# Altium integrated library TI Data Converters Analog to Digital Converter.IntLib: 2198 symbols (part 12 of 164)
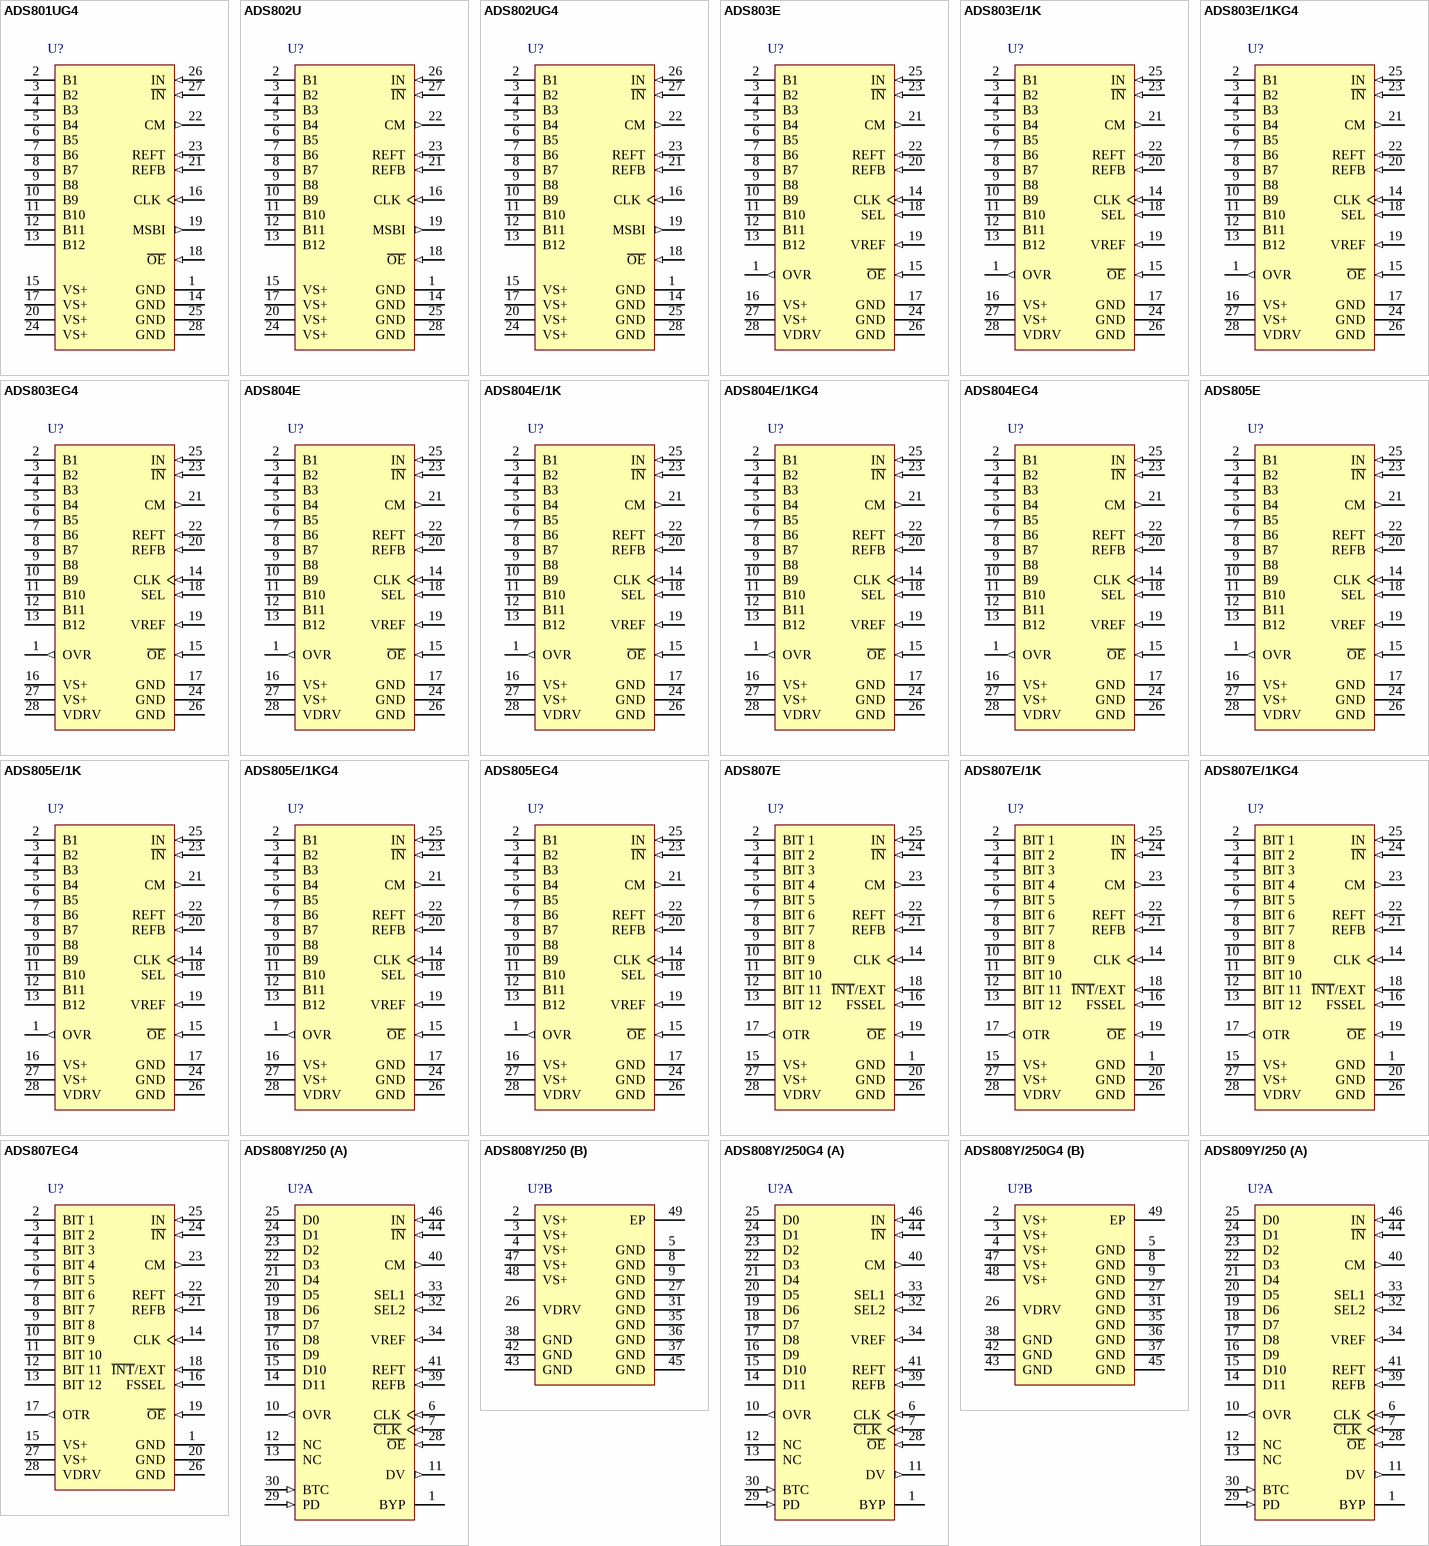
[diagram p137: symbols ADS801UG4 to ADS809Y/250]

## ADS803E/1K
designator U?
12-Bit, 5 MSPS ADC Internal / External Reference, Flexible Input between 2 and 5 Vpp, Out of Range Indicator, -40 to 85 degC, 28-pin SOP (DB28), Green (RoHS & no Sb/Br); Manufacturer: Texas Instruments; PartNumber: ADS803E/1K; # Input Channels: 1; Analog Voltage AV/DD(Max)(V): 5.3; Analog Voltage AV/DD(Min)(V): 4.7; Architecture: Pipeline; ENOB(Bits): 11; INL(Max)(+/-LSB): 2; Interface: Parallel CMOS; Resolution(Bits): 12; Sample Rate (max)(SPS): 5M; SFDR(dB): 82; SINAD(dB): 68; SNR(dB): 69; SubFamily: Precision ADC (<=10M); DatasheetVersion: SBAS074B; PackageVersion: 4040065/E, 12/2001; PackageReference: DB28; PackageDescription: 28-Pin Plastic Small Outline, Body 10.2 X 5.3 mm, Pitch 0.65 mm; Supplier 1: Digi-Key; Supplier Part Number 1: 296-32008-2-ND; Digital Supply(Max)(V): 5.3; Digital Supply(Min)(V): 4.7; Eco-Plan: Green (RoHS & no Sb/Br); Mounting Technology: Surface Mount; Code_JEDEC: MO-150; ComponentLink1Description: Manufacturer URL; ComponentLink1URL: http://www.ti.com/; ComponentLink2Description: Datasheet; ComponentLink2URL: http://www.ti.com/general/docs/lit/getliterature.tsp?genericPartNumber=ADS803&fileType=pdf; ComponentLink3Description: Package Specification; ComponentLink3URL: http://www.ti.com/lit/ml/msso002e/msso002e.pdf
footprint TI-DB28_N (SOP, 28-Leads, Body 10.2x5.3mm, Pitch 0.65mm, IPC Medium Density)
footprint TI-DB28_L (SOP, 28-Leads, Body 10.2x5.3mm, Pitch 0.65mm, IPC High Density)
footprint TI-DB28_M (SOP, 28-Leads, Body 10.2x5.3mm, Pitch 0.65mm, IPC Low Density)
pins: 1 OVR (out) "Over-Range Indicator (See Application Section)", 2 B1 (hiz) "Data Bit 1(D11) (MSB)", 3 B2 (hiz) "Data Bit 2 (D10)", 4 B3 (hiz) "Data Bit 3 (D9)", 5 B4 (hiz) "Data Bit 4 (D8)", 6 B5 (hiz) "Data Bit 5 (D7)", 7 B6 (hiz) "Data Bit 6 (D6)", 8 B7 (hiz) "Data Bit 7 (D5)", 9 B8 (hiz) "Data Bit 8 (D4)", 10 B9 (hiz) "Data Bit 9 (D3)", 11 B10 (hiz) "Data Bit 10 (D2)", 12 B11 (hiz) "Data Bit 11 (D1)", 13 B12 (hiz) "Data Bit 12 (D0) (LSB)", 14 CLK (in) "Convert Clock Input", 15 ~{OE} (in) "Output Enable. H = High Impedance State. L = Low or floating, normal operation (Internal pull-down resistor).", 16 VS+ (power) "+5V Supply", 17 GND (power) "Ground", 18 SEL (in) "Input Range Select (See Application Section)", 19 VREF (in) "Reference Voltage Select (I/O)", 20 REFB (in) "Bottom Reference", 21 CM (out) "Common-Mode Voltage", 22 REFT (in) "Top Reference", 23 ~{IN} (in) "Analog Input (-)", 24 GND (power) "Ground", 25 IN (in) "Analog Input (+)", 26 GND (power) "Ground", 27 VS+ (power) "+5V Supply", 28 VDRV (power) "Output Driver Voltage (See Application Section)"

## ADS803E/1KG4
designator U?
12-Bit, 5 MSPS ADC Internal / External Reference, Flexible Input between 2 and 5 Vpp, Out of Range Indicator, -40 to 85 degC, 28-pin SOP (DB28), Green (RoHS & no Sb/Br); Manufacturer: Texas Instruments; PartNumber: ADS803E/1KG4; # Input Channels: 1; Analog Voltage AV/DD(Max)(V): 5.3; Analog Voltage AV/DD(Min)(V): 4.7; Architecture: Pipeline; ENOB(Bits): 11; INL(Max)(+/-LSB): 2; Interface: Parallel CMOS; Resolution(Bits): 12; Sample Rate (max)(SPS): 5M; SFDR(dB): 82; SINAD(dB): 68; SNR(dB): 69; SubFamily: Precision ADC (<=10M); DatasheetVersion: SBAS074B; PackageVersion: 4040065/E, 12/2001; PackageReference: DB28; PackageDescription: 28-Pin Plastic Small Outline, Body 10.2 X 5.3 mm, Pitch 0.65 mm; Supplier 1: Digi-Key; Supplier Part Number 1: ADS1100A7IDBVTG4-ND; Digital Supply(Max)(V): 5.3; Digital Supply(Min)(V): 4.7; Eco-Plan: Green (RoHS & no Sb/Br); Mounting Technology: Surface Mount; Code_JEDEC: MO-150; ComponentLink1Description: Manufacturer URL; ComponentLink1URL: http://www.ti.com/; ComponentLink2Description: Datasheet; ComponentLink2URL: http://www.ti.com/general/docs/lit/getliterature.tsp?genericPartNumber=ADS803&fileType=pdf; ComponentLink3Description: Package Specification; ComponentLink3URL: http://www.ti.com/lit/ml/msso002e/msso002e.pdf
footprint TI-DB28_N (SOP, 28-Leads, Body 10.2x5.3mm, Pitch 0.65mm, IPC Medium Density)
footprint TI-DB28_L (SOP, 28-Leads, Body 10.2x5.3mm, Pitch 0.65mm, IPC High Density)
footprint TI-DB28_M (SOP, 28-Leads, Body 10.2x5.3mm, Pitch 0.65mm, IPC Low Density)
pins: 1 OVR (out) "Over-Range Indicator (See Application Section)", 2 B1 (hiz) "Data Bit 1(D11) (MSB)", 3 B2 (hiz) "Data Bit 2 (D10)", 4 B3 (hiz) "Data Bit 3 (D9)", 5 B4 (hiz) "Data Bit 4 (D8)", 6 B5 (hiz) "Data Bit 5 (D7)", 7 B6 (hiz) "Data Bit 6 (D6)", 8 B7 (hiz) "Data Bit 7 (D5)", 9 B8 (hiz) "Data Bit 8 (D4)", 10 B9 (hiz) "Data Bit 9 (D3)", 11 B10 (hiz) "Data Bit 10 (D2)", 12 B11 (hiz) "Data Bit 11 (D1)", 13 B12 (hiz) "Data Bit 12 (D0) (LSB)", 14 CLK (in) "Convert Clock Input", 15 ~{OE} (in) "Output Enable. H = High Impedance State. L = Low or floating, normal operation (Internal pull-down resistor).", 16 VS+ (power) "+5V Supply", 17 GND (power) "Ground", 18 SEL (in) "Input Range Select (See Application Section)", 19 VREF (in) "Reference Voltage Select (I/O)", 20 REFB (in) "Bottom Reference", 21 CM (out) "Common-Mode Voltage", 22 REFT (in) "Top Reference", 23 ~{IN} (in) "Analog Input (-)", 24 GND (power) "Ground", 25 IN (in) "Analog Input (+)", 26 GND (power) "Ground", 27 VS+ (power) "+5V Supply", 28 VDRV (power) "Output Driver Voltage (See Application Section)"

## ADS803EG4
designator U?
12-Bit, 5 MSPS ADC Internal / External Reference, Flexible Input between 2 and 5 Vpp, Out of Range Indicator, -40 to 85 degC, 28-pin SOP (DB28), Green (RoHS & no Sb/Br); Manufacturer: Texas Instruments; PartNumber: ADS803EG4; # Input Channels: 1; Analog Voltage AV/DD(Max)(V): 5.3; Analog Voltage AV/DD(Min)(V): 4.7; Architecture: Pipeline; ENOB(Bits): 11; INL(Max)(+/-LSB): 2; Interface: Parallel CMOS; Resolution(Bits): 12; Sample Rate (max)(SPS): 5M; SFDR(dB): 82; SINAD(dB): 68; SNR(dB): 69; SubFamily: Precision ADC (<=10M); DatasheetVersion: SBAS074B; PackageVersion: 4040065/E, 12/2001; PackageReference: DB28; PackageDescription: 28-Pin Plastic Small Outline, Body 10.2 X 5.3 mm, Pitch 0.65 mm; Supplier 1: Digi-Key; Supplier Part Number 1: ADS8325IBDGKR-ND; Digital Supply(Max)(V): 5.3; Digital Supply(Min)(V): 4.7; Eco-Plan: Green (RoHS & no Sb/Br); Mounting Technology: Surface Mount; Code_JEDEC: MO-150; ComponentLink1Description: Manufacturer URL; ComponentLink1URL: http://www.ti.com/; ComponentLink2Description: Datasheet; ComponentLink2URL: http://www.ti.com/general/docs/lit/getliterature.tsp?genericPartNumber=ADS803&fileType=pdf; ComponentLink3Description: Package Specification; ComponentLink3URL: http://www.ti.com/lit/ml/msso002e/msso002e.pdf
footprint TI-DB28_N (SOP, 28-Leads, Body 10.2x5.3mm, Pitch 0.65mm, IPC Medium Density)
footprint TI-DB28_L (SOP, 28-Leads, Body 10.2x5.3mm, Pitch 0.65mm, IPC High Density)
footprint TI-DB28_M (SOP, 28-Leads, Body 10.2x5.3mm, Pitch 0.65mm, IPC Low Density)
pins: 1 OVR (out) "Over-Range Indicator (See Application Section)", 2 B1 (hiz) "Data Bit 1(D11) (MSB)", 3 B2 (hiz) "Data Bit 2 (D10)", 4 B3 (hiz) "Data Bit 3 (D9)", 5 B4 (hiz) "Data Bit 4 (D8)", 6 B5 (hiz) "Data Bit 5 (D7)", 7 B6 (hiz) "Data Bit 6 (D6)", 8 B7 (hiz) "Data Bit 7 (D5)", 9 B8 (hiz) "Data Bit 8 (D4)", 10 B9 (hiz) "Data Bit 9 (D3)", 11 B10 (hiz) "Data Bit 10 (D2)", 12 B11 (hiz) "Data Bit 11 (D1)", 13 B12 (hiz) "Data Bit 12 (D0) (LSB)", 14 CLK (in) "Convert Clock Input", 15 ~{OE} (in) "Output Enable. H = High Impedance State. L = Low or floating, normal operation (Internal pull-down resistor).", 16 VS+ (power) "+5V Supply", 17 GND (power) "Ground", 18 SEL (in) "Input Range Select (See Application Section)", 19 VREF (in) "Reference Voltage Select (I/O)", 20 REFB (in) "Bottom Reference", 21 CM (out) "Common-Mode Voltage", 22 REFT (in) "Top Reference", 23 ~{IN} (in) "Analog Input (-)", 24 GND (power) "Ground", 25 IN (in) "Analog Input (+)", 26 GND (power) "Ground", 27 VS+ (power) "+5V Supply", 28 VDRV (power) "Output Driver Voltage (See Application Section)"

## ADS804E
designator U?
12-Bit, 10 MSPS ADC Internal / External Reference, Flexible Input between 2 and 5 Vpp, Out of Range Indicator, -40 to 85 degC, 28-pin SOP (DB28), Green (RoHS & no Sb/Br); Manufacturer: Texas Instruments; PartNumber: ADS804E; # Input Channels: 1; Analog Voltage AV/DD(Max)(V): 5.3; Analog Voltage AV/DD(Min)(V): 4.7; Architecture: Pipeline; INL(Max)(+/-LSB): 2; Interface: Parallel CMOS; Resolution(Bits): 12; Sample Rate (max)(SPS): 10M; SFDR(dB): 80; SINAD(dB): 68; SNR(dB): 69; SubFamily: Precision ADC (<=10M); DatasheetVersion: SBAS068B; PackageVersion: 4040065/E, 12/2001; PackageReference: DB28; PackageDescription: 28-Pin Plastic Small Outline, Body 10.2 X 5.3 mm, Pitch 0.65 mm; Supplier 1: Digi-Key; Supplier Part Number 1: ADS8325IBDGKRG4-ND; Digital Supply(Max)(V): 5.3; Digital Supply(Min)(V): 4.7; Eco-Plan: Green (RoHS & no Sb/Br); Mounting Technology: Surface Mount; Code_JEDEC: MO-150; ComponentLink1Description: Manufacturer URL; ComponentLink1URL: http://www.ti.com/; ComponentLink2Description: Datasheet; ComponentLink2URL: http://www.ti.com/general/docs/lit/getliterature.tsp?genericPartNumber=ADS804&fileType=pdf; ComponentLink3Description: Package Specification; ComponentLink3URL: http://www.ti.com/lit/ml/msso002e/msso002e.pdf
footprint TI-DB28_N (SOP, 28-Leads, Body 10.2x5.3mm, Pitch 0.65mm, IPC Medium Density)
footprint TI-DB28_L (SOP, 28-Leads, Body 10.2x5.3mm, Pitch 0.65mm, IPC High Density)
footprint TI-DB28_M (SOP, 28-Leads, Body 10.2x5.3mm, Pitch 0.65mm, IPC Low Density)
pins: 1 OVR (out) "Over-Range Indicator (See Application Section)", 2 B1 (hiz) "Data Bit 1(D11) (MSB)", 3 B2 (hiz) "Data Bit 2 (D10)", 4 B3 (hiz) "Data Bit 3 (D9)", 5 B4 (hiz) "Data Bit 4 (D8)", 6 B5 (hiz) "Data Bit 5 (D7)", 7 B6 (hiz) "Data Bit 6 (D6)", 8 B7 (hiz) "Data Bit 7 (D5)", 9 B8 (hiz) "Data Bit 8 (D4)", 10 B9 (hiz) "Data Bit 9 (D3)", 11 B10 (hiz) "Data Bit 10 (D2)", 12 B11 (hiz) "Data Bit 11 (D1)", 13 B12 (hiz) "Data Bit 12 (D0) (LSB)", 14 CLK (in) "Convert Clock Input", 15 ~{OE} (in) "Output Enable. H = High Impedance State. L = Low or floating, normal operation (Internal pull-down resistor).", 16 VS+ (power) "+5V Supply", 17 GND (power) "Ground", 18 SEL (in) "Input Range Select (See Application Section)", 19 VREF (in) "Reference Voltage Select (I/O)", 20 REFB (in) "Bottom Reference", 21 CM (out) "Common-Mode Voltage", 22 REFT (in) "Top Reference", 23 ~{IN} (in) "Analog Input (-)", 24 GND (power) "Ground", 25 IN (in) "Analog Input (+)", 26 GND (power) "Ground", 27 VS+ (power) "+5V Supply", 28 VDRV (power) "Output Driver Voltage (See Application Section)"

## ADS804E/1K
designator U?
12-Bit, 10 MSPS ADC Internal / External Reference, Flexible Input between 2 and 5 Vpp, Out of Range Indicator, -40 to 85 degC, 28-pin SOP (DB28), Green (RoHS & no Sb/Br); Manufacturer: Texas Instruments; PartNumber: ADS804E/1K; # Input Channels: 1; Analog Voltage AV/DD(Max)(V): 5.3; Analog Voltage AV/DD(Min)(V): 4.7; Architecture: Pipeline; INL(Max)(+/-LSB): 2; Interface: Parallel CMOS; Resolution(Bits): 12; Sample Rate (max)(SPS): 10M; SFDR(dB): 80; SINAD(dB): 68; SNR(dB): 69; SubFamily: Precision ADC (<=10M); DatasheetVersion: SBAS068B; PackageVersion: 4040065/E, 12/2001; PackageReference: DB28; PackageDescription: 28-Pin Plastic Small Outline, Body 10.2 X 5.3 mm, Pitch 0.65 mm; Supplier 1: Digi-Key; Supplier Part Number 1: ADS8325IBDGKTTR-ND; Digital Supply(Max)(V): 5.3; Digital Supply(Min)(V): 4.7; Eco-Plan: Green (RoHS & no Sb/Br); Mounting Technology: Surface Mount; Code_JEDEC: MO-150; ComponentLink1Description: Manufacturer URL; ComponentLink1URL: http://www.ti.com/; ComponentLink2Description: Datasheet; ComponentLink2URL: http://www.ti.com/general/docs/lit/getliterature.tsp?genericPartNumber=ADS804&fileType=pdf; ComponentLink3Description: Package Specification; ComponentLink3URL: http://www.ti.com/lit/ml/msso002e/msso002e.pdf
footprint TI-DB28_N (SOP, 28-Leads, Body 10.2x5.3mm, Pitch 0.65mm, IPC Medium Density)
footprint TI-DB28_L (SOP, 28-Leads, Body 10.2x5.3mm, Pitch 0.65mm, IPC High Density)
footprint TI-DB28_M (SOP, 28-Leads, Body 10.2x5.3mm, Pitch 0.65mm, IPC Low Density)
pins: 1 OVR (out) "Over-Range Indicator (See Application Section)", 2 B1 (hiz) "Data Bit 1(D11) (MSB)", 3 B2 (hiz) "Data Bit 2 (D10)", 4 B3 (hiz) "Data Bit 3 (D9)", 5 B4 (hiz) "Data Bit 4 (D8)", 6 B5 (hiz) "Data Bit 5 (D7)", 7 B6 (hiz) "Data Bit 6 (D6)", 8 B7 (hiz) "Data Bit 7 (D5)", 9 B8 (hiz) "Data Bit 8 (D4)", 10 B9 (hiz) "Data Bit 9 (D3)", 11 B10 (hiz) "Data Bit 10 (D2)", 12 B11 (hiz) "Data Bit 11 (D1)", 13 B12 (hiz) "Data Bit 12 (D0) (LSB)", 14 CLK (in) "Convert Clock Input", 15 ~{OE} (in) "Output Enable. H = High Impedance State. L = Low or floating, normal operation (Internal pull-down resistor).", 16 VS+ (power) "+5V Supply", 17 GND (power) "Ground", 18 SEL (in) "Input Range Select (See Application Section)", 19 VREF (in) "Reference Voltage Select (I/O)", 20 REFB (in) "Bottom Reference", 21 CM (out) "Common-Mode Voltage", 22 REFT (in) "Top Reference", 23 ~{IN} (in) "Analog Input (-)", 24 GND (power) "Ground", 25 IN (in) "Analog Input (+)", 26 GND (power) "Ground", 27 VS+ (power) "+5V Supply", 28 VDRV (power) "Output Driver Voltage (See Application Section)"

## ADS804E/1KG4
designator U?
12-Bit, 10 MSPS ADC Internal / External Reference, Flexible Input between 2 and 5 Vpp, Out of Range Indicator, -40 to 85 degC, 28-pin SOP (DB28), Green (RoHS & no Sb/Br); Manufacturer: Texas Instruments; PartNumber: ADS804E/1KG4; # Input Channels: 1; Analog Voltage AV/DD(Max)(V): 5.3; Analog Voltage AV/DD(Min)(V): 4.7; Architecture: Pipeline; INL(Max)(+/-LSB): 2; Interface: Parallel CMOS; Resolution(Bits): 12; Sample Rate (max)(SPS): 10M; SFDR(dB): 80; SINAD(dB): 68; SNR(dB): 69; SubFamily: Precision ADC (<=10M); DatasheetVersion: SBAS068B; PackageVersion: 4040065/E, 12/2001; PackageReference: DB28; PackageDescription: 28-Pin Plastic Small Outline, Body 10.2 X 5.3 mm, Pitch 0.65 mm; Supplier 1: Digi-Key; Supplier Part Number 1: ADS8325IBDGKTG4-ND; Digital Supply(Max)(V): 5.3; Digital Supply(Min)(V): 4.7; Eco-Plan: Green (RoHS & no Sb/Br); Mounting Technology: Surface Mount; Code_JEDEC: MO-150; ComponentLink1Description: Manufacturer URL; ComponentLink1URL: http://www.ti.com/; ComponentLink2Description: Datasheet; ComponentLink2URL: http://www.ti.com/general/docs/lit/getliterature.tsp?genericPartNumber=ADS804&fileType=pdf; ComponentLink3Description: Package Specification; ComponentLink3URL: http://www.ti.com/lit/ml/msso002e/msso002e.pdf
footprint TI-DB28_N (SOP, 28-Leads, Body 10.2x5.3mm, Pitch 0.65mm, IPC Medium Density)
footprint TI-DB28_L (SOP, 28-Leads, Body 10.2x5.3mm, Pitch 0.65mm, IPC High Density)
footprint TI-DB28_M (SOP, 28-Leads, Body 10.2x5.3mm, Pitch 0.65mm, IPC Low Density)
pins: 1 OVR (out) "Over-Range Indicator (See Application Section)", 2 B1 (hiz) "Data Bit 1(D11) (MSB)", 3 B2 (hiz) "Data Bit 2 (D10)", 4 B3 (hiz) "Data Bit 3 (D9)", 5 B4 (hiz) "Data Bit 4 (D8)", 6 B5 (hiz) "Data Bit 5 (D7)", 7 B6 (hiz) "Data Bit 6 (D6)", 8 B7 (hiz) "Data Bit 7 (D5)", 9 B8 (hiz) "Data Bit 8 (D4)", 10 B9 (hiz) "Data Bit 9 (D3)", 11 B10 (hiz) "Data Bit 10 (D2)", 12 B11 (hiz) "Data Bit 11 (D1)", 13 B12 (hiz) "Data Bit 12 (D0) (LSB)", 14 CLK (in) "Convert Clock Input", 15 ~{OE} (in) "Output Enable. H = High Impedance State. L = Low or floating, normal operation (Internal pull-down resistor).", 16 VS+ (power) "+5V Supply", 17 GND (power) "Ground", 18 SEL (in) "Input Range Select (See Application Section)", 19 VREF (in) "Reference Voltage Select (I/O)", 20 REFB (in) "Bottom Reference", 21 CM (out) "Common-Mode Voltage", 22 REFT (in) "Top Reference", 23 ~{IN} (in) "Analog Input (-)", 24 GND (power) "Ground", 25 IN (in) "Analog Input (+)", 26 GND (power) "Ground", 27 VS+ (power) "+5V Supply", 28 VDRV (power) "Output Driver Voltage (See Application Section)"

## ADS804EG4
designator U?
12-Bit, 10 MSPS ADC Internal / External Reference, Flexible Input between 2 and 5 Vpp, Out of Range Indicator, -40 to 85 degC, 28-pin SOP (DB28), Green (RoHS & no Sb/Br); Manufacturer: Texas Instruments; PartNumber: ADS804EG4; # Input Channels: 1; Analog Voltage AV/DD(Max)(V): 5.3; Analog Voltage AV/DD(Min)(V): 4.7; Architecture: Pipeline; INL(Max)(+/-LSB): 2; Interface: Parallel CMOS; Resolution(Bits): 12; Sample Rate (max)(SPS): 10M; SFDR(dB): 80; SINAD(dB): 68; SNR(dB): 69; SubFamily: Precision ADC (<=10M); DatasheetVersion: SBAS068B; PackageVersion: 4040065/E, 12/2001; PackageReference: DB28; PackageDescription: 28-Pin Plastic Small Outline, Body 10.2 X 5.3 mm, Pitch 0.65 mm; Supplier 1: Digi-Key; Supplier Part Number 1: ADS8325IDGKR-ND; Digital Supply(Max)(V): 5.3; Digital Supply(Min)(V): 4.7; Eco-Plan: Green (RoHS & no Sb/Br); Mounting Technology: Surface Mount; Code_JEDEC: MO-150; ComponentLink1Description: Manufacturer URL; ComponentLink1URL: http://www.ti.com/; ComponentLink2Description: Datasheet; ComponentLink2URL: http://www.ti.com/general/docs/lit/getliterature.tsp?genericPartNumber=ADS804&fileType=pdf; ComponentLink3Description: Package Specification; ComponentLink3URL: http://www.ti.com/lit/ml/msso002e/msso002e.pdf
footprint TI-DB28_N (SOP, 28-Leads, Body 10.2x5.3mm, Pitch 0.65mm, IPC Medium Density)
footprint TI-DB28_L (SOP, 28-Leads, Body 10.2x5.3mm, Pitch 0.65mm, IPC High Density)
footprint TI-DB28_M (SOP, 28-Leads, Body 10.2x5.3mm, Pitch 0.65mm, IPC Low Density)
pins: 1 OVR (out) "Over-Range Indicator (See Application Section)", 2 B1 (hiz) "Data Bit 1(D11) (MSB)", 3 B2 (hiz) "Data Bit 2 (D10)", 4 B3 (hiz) "Data Bit 3 (D9)", 5 B4 (hiz) "Data Bit 4 (D8)", 6 B5 (hiz) "Data Bit 5 (D7)", 7 B6 (hiz) "Data Bit 6 (D6)", 8 B7 (hiz) "Data Bit 7 (D5)", 9 B8 (hiz) "Data Bit 8 (D4)", 10 B9 (hiz) "Data Bit 9 (D3)", 11 B10 (hiz) "Data Bit 10 (D2)", 12 B11 (hiz) "Data Bit 11 (D1)", 13 B12 (hiz) "Data Bit 12 (D0) (LSB)", 14 CLK (in) "Convert Clock Input", 15 ~{OE} (in) "Output Enable. H = High Impedance State. L = Low or floating, normal operation (Internal pull-down resistor).", 16 VS+ (power) "+5V Supply", 17 GND (power) "Ground", 18 SEL (in) "Input Range Select (See Application Section)", 19 VREF (in) "Reference Voltage Select (I/O)", 20 REFB (in) "Bottom Reference", 21 CM (out) "Common-Mode Voltage", 22 REFT (in) "Top Reference", 23 ~{IN} (in) "Analog Input (-)", 24 GND (power) "Ground", 25 IN (in) "Analog Input (+)", 26 GND (power) "Ground", 27 VS+ (power) "+5V Supply", 28 VDRV (power) "Output Driver Voltage (See Application Section)"

## ADS805E
designator U?
12-Bit, 20 MSPS ADC Internal / External Reference, Flexible Input between 2 and 5 Vpp, Out of Range Indicator, -40 to 85 degC, 28-pin SOP (DB28), Green (RoHS & no Sb/Br); Manufacturer: Texas Instruments; PartNumber: ADS805E; # Input Channels: 1; Analog Voltage AV/DD(Max)(V): 5.25; Analog Voltage AV/DD(Min)(V): 4.75; Architecture: Pipeline; ENOB(Bits): 10.7; INL(Max)(+/-LSB): 2; Interface: Parallel CMOS; Resolution(Bits): 12; Sample Rate (max)(SPS): 20M; SFDR(dB): 74; SINAD(dB): 66; SNR(dB): 68; SubFamily: High Speed ADC (>10M); DatasheetVersion: SBAS073B; PackageVersion: 4040065/E, 12/2001; PackageReference: DB28; PackageDescription: 28-Pin Plastic Small Outline, Body 10.2 X 5.3 mm, Pitch 0.65 mm; Supplier 1: Digi-Key; Supplier Part Number 1: ADS8325IDGKRG4-ND; Digital Supply(Max)(V): 5.25; Digital Supply(Min)(V): 4.75; Eco-Plan: Green (RoHS & no Sb/Br); Mounting Technology: Surface Mount; Code_JEDEC: MO-150; ComponentLink1Description: Manufacturer URL; ComponentLink1URL: http://www.ti.com/; ComponentLink2Description: Datasheet; ComponentLink2URL: http://www.ti.com/general/docs/lit/getliterature.tsp?genericPartNumber=ADS805&fileType=pdf; ComponentLink3Description: Package Specification; ComponentLink3URL: http://www.ti.com/lit/ml/msso002e/msso002e.pdf
footprint TI-DB28_N (SOP, 28-Leads, Body 10.2x5.3mm, Pitch 0.65mm, IPC Medium Density)
footprint TI-DB28_L (SOP, 28-Leads, Body 10.2x5.3mm, Pitch 0.65mm, IPC High Density)
footprint TI-DB28_M (SOP, 28-Leads, Body 10.2x5.3mm, Pitch 0.65mm, IPC Low Density)
pins: 1 OVR (out) "Over-Range Indicator (See Application Section)", 2 B1 (hiz) "Data Bit 1(D11) (MSB)", 3 B2 (hiz) "Data Bit 2 (D10)", 4 B3 (hiz) "Data Bit 3 (D9)", 5 B4 (hiz) "Data Bit 4 (D8)", 6 B5 (hiz) "Data Bit 5 (D7)", 7 B6 (hiz) "Data Bit 6 (D6)", 8 B7 (hiz) "Data Bit 7 (D5)", 9 B8 (hiz) "Data Bit 8 (D4)", 10 B9 (hiz) "Data Bit 9 (D3)", 11 B10 (hiz) "Data Bit 10 (D2)", 12 B11 (hiz) "Data Bit 11 (D1)", 13 B12 (hiz) "Data Bit 12 (D0) (LSB)", 14 CLK (in) "Convert Clock Input", 15 ~{OE} (in) "Output Enable. H = High Impedance State. L = Low or floating, normal operation (Internal pull-down resistor).", 16 VS+ (power) "+5V Supply", 17 GND (power) "Ground", 18 SEL (in) "Input Range Select (See Application Section)", 19 VREF (in) "Reference Voltage Select (I/O)", 20 REFB (in) "Bottom Reference", 21 CM (out) "Common-Mode Voltage", 22 REFT (in) "Top Reference", 23 ~{IN} (in) "Analog Input (-)", 24 GND (power) "Ground", 25 IN (in) "Analog Input (+)", 26 GND (power) "Ground", 27 VS+ (power) "+5V Supply", 28 VDRV (power) "Output Driver Voltage (See Application Section)"

## ADS805E/1K
designator U?
12-Bit, 20 MSPS ADC Internal / External Reference, Flexible Input between 2 and 5 Vpp, Out of Range Indicator, -40 to 85 degC, 28-pin SOP (DB28), Green (RoHS & no Sb/Br); Manufacturer: Texas Instruments; PartNumber: ADS805E/1K; # Input Channels: 1; Analog Voltage AV/DD(Max)(V): 5.25; Analog Voltage AV/DD(Min)(V): 4.75; Architecture: Pipeline; ENOB(Bits): 10.7; INL(Max)(+/-LSB): 2; Interface: Parallel CMOS; Resolution(Bits): 12; Sample Rate (max)(SPS): 20M; SFDR(dB): 74; SINAD(dB): 66; SNR(dB): 68; SubFamily: High Speed ADC (>10M); DatasheetVersion: SBAS073B; PackageVersion: 4040065/E, 12/2001; PackageReference: DB28; PackageDescription: 28-Pin Plastic Small Outline, Body 10.2 X 5.3 mm, Pitch 0.65 mm; Supplier 1: Digi-Key; Supplier Part Number 1: 296-19859-2-ND; Digital Supply(Max)(V): 5.25; Digital Supply(Min)(V): 4.75; Eco-Plan: Green (RoHS & no Sb/Br); Mounting Technology: Surface Mount; Code_JEDEC: MO-150; ComponentLink1Description: Manufacturer URL; ComponentLink1URL: http://www.ti.com/; ComponentLink2Description: Datasheet; ComponentLink2URL: http://www.ti.com/general/docs/lit/getliterature.tsp?genericPartNumber=ADS805&fileType=pdf; ComponentLink3Description: Package Specification; ComponentLink3URL: http://www.ti.com/lit/ml/msso002e/msso002e.pdf
footprint TI-DB28_N (SOP, 28-Leads, Body 10.2x5.3mm, Pitch 0.65mm, IPC Medium Density)
footprint TI-DB28_L (SOP, 28-Leads, Body 10.2x5.3mm, Pitch 0.65mm, IPC High Density)
footprint TI-DB28_M (SOP, 28-Leads, Body 10.2x5.3mm, Pitch 0.65mm, IPC Low Density)
pins: 1 OVR (out) "Over-Range Indicator (See Application Section)", 2 B1 (hiz) "Data Bit 1(D11) (MSB)", 3 B2 (hiz) "Data Bit 2 (D10)", 4 B3 (hiz) "Data Bit 3 (D9)", 5 B4 (hiz) "Data Bit 4 (D8)", 6 B5 (hiz) "Data Bit 5 (D7)", 7 B6 (hiz) "Data Bit 6 (D6)", 8 B7 (hiz) "Data Bit 7 (D5)", 9 B8 (hiz) "Data Bit 8 (D4)", 10 B9 (hiz) "Data Bit 9 (D3)", 11 B10 (hiz) "Data Bit 10 (D2)", 12 B11 (hiz) "Data Bit 11 (D1)", 13 B12 (hiz) "Data Bit 12 (D0) (LSB)", 14 CLK (in) "Convert Clock Input", 15 ~{OE} (in) "Output Enable. H = High Impedance State. L = Low or floating, normal operation (Internal pull-down resistor).", 16 VS+ (power) "+5V Supply", 17 GND (power) "Ground", 18 SEL (in) "Input Range Select (See Application Section)", 19 VREF (in) "Reference Voltage Select (I/O)", 20 REFB (in) "Bottom Reference", 21 CM (out) "Common-Mode Voltage", 22 REFT (in) "Top Reference", 23 ~{IN} (in) "Analog Input (-)", 24 GND (power) "Ground", 25 IN (in) "Analog Input (+)", 26 GND (power) "Ground", 27 VS+ (power) "+5V Supply", 28 VDRV (power) "Output Driver Voltage (See Application Section)"

## ADS805E/1KG4
designator U?
12-Bit, 20 MSPS ADC Internal / External Reference, Flexible Input between 2 and 5 Vpp, Out of Range Indicator, -40 to 85 degC, 28-pin SOP (DB28), Green (RoHS & no Sb/Br); Manufacturer: Texas Instruments; PartNumber: ADS805E/1KG4; # Input Channels: 1; Analog Voltage AV/DD(Max)(V): 5.25; Analog Voltage AV/DD(Min)(V): 4.75; Architecture: Pipeline; ENOB(Bits): 10.7; INL(Max)(+/-LSB): 2; Interface: Parallel CMOS; Resolution(Bits): 12; Sample Rate (max)(SPS): 20M; SFDR(dB): 74; SINAD(dB): 66; SNR(dB): 68; SubFamily: High Speed ADC (>10M); DatasheetVersion: SBAS073B; PackageVersion: 4040065/E, 12/2001; PackageReference: DB28; PackageDescription: 28-Pin Plastic Small Outline, Body 10.2 X 5.3 mm, Pitch 0.65 mm; Supplier 1: Digi-Key; Supplier Part Number 1: ADS8325IDGKTG4-ND; Digital Supply(Max)(V): 5.25; Digital Supply(Min)(V): 4.75; Eco-Plan: Green (RoHS & no Sb/Br); Mounting Technology: Surface Mount; Code_JEDEC: MO-150; ComponentLink1Description: Manufacturer URL; ComponentLink1URL: http://www.ti.com/; ComponentLink2Description: Datasheet; ComponentLink2URL: http://www.ti.com/general/docs/lit/getliterature.tsp?genericPartNumber=ADS805&fileType=pdf; ComponentLink3Description: Package Specification; ComponentLink3URL: http://www.ti.com/lit/ml/msso002e/msso002e.pdf
footprint TI-DB28_N (SOP, 28-Leads, Body 10.2x5.3mm, Pitch 0.65mm, IPC Medium Density)
footprint TI-DB28_L (SOP, 28-Leads, Body 10.2x5.3mm, Pitch 0.65mm, IPC High Density)
footprint TI-DB28_M (SOP, 28-Leads, Body 10.2x5.3mm, Pitch 0.65mm, IPC Low Density)
pins: 1 OVR (out) "Over-Range Indicator (See Application Section)", 2 B1 (hiz) "Data Bit 1(D11) (MSB)", 3 B2 (hiz) "Data Bit 2 (D10)", 4 B3 (hiz) "Data Bit 3 (D9)", 5 B4 (hiz) "Data Bit 4 (D8)", 6 B5 (hiz) "Data Bit 5 (D7)", 7 B6 (hiz) "Data Bit 6 (D6)", 8 B7 (hiz) "Data Bit 7 (D5)", 9 B8 (hiz) "Data Bit 8 (D4)", 10 B9 (hiz) "Data Bit 9 (D3)", 11 B10 (hiz) "Data Bit 10 (D2)", 12 B11 (hiz) "Data Bit 11 (D1)", 13 B12 (hiz) "Data Bit 12 (D0) (LSB)", 14 CLK (in) "Convert Clock Input", 15 ~{OE} (in) "Output Enable. H = High Impedance State. L = Low or floating, normal operation (Internal pull-down resistor).", 16 VS+ (power) "+5V Supply", 17 GND (power) "Ground", 18 SEL (in) "Input Range Select (See Application Section)", 19 VREF (in) "Reference Voltage Select (I/O)", 20 REFB (in) "Bottom Reference", 21 CM (out) "Common-Mode Voltage", 22 REFT (in) "Top Reference", 23 ~{IN} (in) "Analog Input (-)", 24 GND (power) "Ground", 25 IN (in) "Analog Input (+)", 26 GND (power) "Ground", 27 VS+ (power) "+5V Supply", 28 VDRV (power) "Output Driver Voltage (See Application Section)"

## ADS805EG4
designator U?
12-Bit, 20 MSPS ADC Internal / External Reference, Flexible Input between 2 and 5 Vpp, Out of Range Indicator, -40 to 85 degC, 28-pin SOP (DB28), Green (RoHS & no Sb/Br); Manufacturer: Texas Instruments; PartNumber: ADS805EG4; # Input Channels: 1; Analog Voltage AV/DD(Max)(V): 5.25; Analog Voltage AV/DD(Min)(V): 4.75; Architecture: Pipeline; ENOB(Bits): 10.7; INL(Max)(+/-LSB): 2; Interface: Parallel CMOS; Resolution(Bits): 12; Sample Rate (max)(SPS): 20M; SFDR(dB): 74; SINAD(dB): 66; SNR(dB): 68; SubFamily: High Speed ADC (>10M); DatasheetVersion: SBAS073B; PackageVersion: 4040065/E, 12/2001; PackageReference: DB28; PackageDescription: 28-Pin Plastic Small Outline, Body 10.2 X 5.3 mm, Pitch 0.65 mm; Supplier 1: Digi-Key; Supplier Part Number 1: 296-12746-5-ND; Digital Supply(Max)(V): 5.25; Digital Supply(Min)(V): 4.75; Eco-Plan: Green (RoHS & no Sb/Br); Mounting Technology: Surface Mount; Code_JEDEC: MO-150; ComponentLink1Description: Manufacturer URL; ComponentLink1URL: http://www.ti.com/; ComponentLink2Description: Datasheet; ComponentLink2URL: http://www.ti.com/general/docs/lit/getliterature.tsp?genericPartNumber=ADS805&fileType=pdf; ComponentLink3Description: Package Specification; ComponentLink3URL: http://www.ti.com/lit/ml/msso002e/msso002e.pdf
footprint TI-DB28_N (SOP, 28-Leads, Body 10.2x5.3mm, Pitch 0.65mm, IPC Medium Density)
footprint TI-DB28_L (SOP, 28-Leads, Body 10.2x5.3mm, Pitch 0.65mm, IPC High Density)
footprint TI-DB28_M (SOP, 28-Leads, Body 10.2x5.3mm, Pitch 0.65mm, IPC Low Density)
pins: 1 OVR (out) "Over-Range Indicator (See Application Section)", 2 B1 (hiz) "Data Bit 1(D11) (MSB)", 3 B2 (hiz) "Data Bit 2 (D10)", 4 B3 (hiz) "Data Bit 3 (D9)", 5 B4 (hiz) "Data Bit 4 (D8)", 6 B5 (hiz) "Data Bit 5 (D7)", 7 B6 (hiz) "Data Bit 6 (D6)", 8 B7 (hiz) "Data Bit 7 (D5)", 9 B8 (hiz) "Data Bit 8 (D4)", 10 B9 (hiz) "Data Bit 9 (D3)", 11 B10 (hiz) "Data Bit 10 (D2)", 12 B11 (hiz) "Data Bit 11 (D1)", 13 B12 (hiz) "Data Bit 12 (D0) (LSB)", 14 CLK (in) "Convert Clock Input", 15 ~{OE} (in) "Output Enable. H = High Impedance State. L = Low or floating, normal operation (Internal pull-down resistor).", 16 VS+ (power) "+5V Supply", 17 GND (power) "Ground", 18 SEL (in) "Input Range Select (See Application Section)", 19 VREF (in) "Reference Voltage Select (I/O)", 20 REFB (in) "Bottom Reference", 21 CM (out) "Common-Mode Voltage", 22 REFT (in) "Top Reference", 23 ~{IN} (in) "Analog Input (-)", 24 GND (power) "Ground", 25 IN (in) "Analog Input (+)", 26 GND (power) "Ground", 27 VS+ (power) "+5V Supply", 28 VDRV (power) "Output Driver Voltage (See Application Section)"

## ADS807E
designator U?
12-Bit, 53 MSPS ADC Single-Ended / Differential Input with Range of 2 to 3 Vpp, Internal / External Reference, Out of Range Indicator, -40 to 85 degC, 28-pin SOP (DB28), Green (RoHS & no Sb/Br); Manufacturer: Texas Instruments; PartNumber: ADS807E; # Input Channels: 1; Analog Voltage AV/DD(Max)(V): 5.25; Analog Voltage AV/DD(Min)(V): 4.75; Architecture: Pipeline; Digital Supply(Max)(V): 5; Digital Supply(Min)(V): 3; ENOB(Bits): 0.5; INL(Max)(+/-LSB): 4; Interface: Parallel CMOS; Resolution(Bits): 12; Sample Rate (max)(SPS): 53M; SFDR(dB): 82; SINAD(dB): 69; SubFamily: High Speed ADC (>10MSPS); DatasheetVersion: SBAS072A; PackageVersion: 4040065/E, 12/2001; PackageReference: DB28; PackageDescription: 28-Pin Plastic Small Outline, Body 10.2 X 5.3 mm, Pitch 0.65 mm; Supplier 1: Digi-Key; Supplier Part Number 1: TLC4545IDGKG4-ND; Eco-Plan: Green (RoHS & no Sb/Br); SNR(dB): 69; Mounting Technology: Surface Mount; Code_JEDEC: MO-150; ComponentLink1Description: Manufacturer URL; ComponentLink1URL: http://www.ti.com/; ComponentLink2Description: Datasheet; ComponentLink2URL: http://www.ti.com/general/docs/lit/getliterature.tsp?genericPartNumber=ADS807&fileType=pdf; ComponentLink3Description: Package Specification; ComponentLink3URL: http://www.ti.com/lit/ml/msso002e/msso002e.pdf
footprint TI-DB28_N (SOP, 28-Leads, Body 10.2x5.3mm, Pitch 0.65mm, IPC Medium Density)
footprint TI-DB28_L (SOP, 28-Leads, Body 10.2x5.3mm, Pitch 0.65mm, IPC High Density)
footprint TI-DB28_M (SOP, 28-Leads, Body 10.2x5.3mm, Pitch 0.65mm, IPC Low Density)
pins: 1 GND (power) "Ground", 2 BIT 1 (hiz) "Data BIT 1 (MSB)", 3 BIT 2 (hiz) "Data BIT 2", 4 BIT 3 (hiz) "Data BIT 3", 5 BIT 4 (hiz) "Data BIT 4", 6 BIT 5 (hiz) "Data BIT 5", 7 BIT 6 (hiz) "Data BIT 6", 8 BIT 7 (hiz) "Data BIT 7", 9 BIT 8 (hiz) "Data BIT 8", 10 BIT 9 (hiz) "Data BIT 9", 11 BIT 10 (hiz) "Data BIT 10", 12 BIT 11 (hiz) "Data BIT 11", 13 BIT 12 (hiz) "Data BIT 12 (LSB)", 14 CLK (in) "Convert Clock", 15 VS+ (power) "+5V Supply", 16 FSSEL (in) "HI = 3V, LO = 2V", 17 OTR (out) "Out-of-Range Indicator", 18 ~{INT}/EXT (in) "Reference Select: HIGH or Floating = External LOW = Internal 50kohm pull-up.", 19 ~{OE} (in) "Output Enable", 20 GND (power) "Ground", 21 REFB (in) "Bottom Reference/Bypass", 22 REFT (in) "Top Reference/Bypass", 23 CM (out) "Common-Mode Voltage Output", 24 ~{IN} (in) "Complementary Analog Input", 25 IN (in) "Analog Input", 26 GND (power) "Ground", 27 VS+ (power) "+5V Supply", 28 VDRV (power) "Logic Driver Supply Voltage"

## ADS807E/1K
designator U?
12-Bit, 53 MSPS ADC Single-Ended / Differential Input with Range of 2 to 3 Vpp, Internal / External Reference, Out of Range Indicator, -40 to 85 degC, 28-pin SOP (DB28), Green (RoHS & no Sb/Br); Manufacturer: Texas Instruments; PartNumber: ADS807E/1K; # Input Channels: 1; Analog Voltage AV/DD(Max)(V): 5.25; Analog Voltage AV/DD(Min)(V): 4.75; Architecture: Pipeline; Digital Supply(Max)(V): 5; Digital Supply(Min)(V): 3; ENOB(Bits): 0.5; INL(Max)(+/-LSB): 4; Interface: Parallel CMOS; Resolution(Bits): 12; Sample Rate (max)(SPS): 53M; SFDR(dB): 82; SINAD(dB): 69; SubFamily: High Speed ADC (>10MSPS); DatasheetVersion: SBAS072A; PackageVersion: 4040065/E, 12/2001; PackageReference: DB28; PackageDescription: 28-Pin Plastic Small Outline, Body 10.2 X 5.3 mm, Pitch 0.65 mm; Supplier 1: Digi-Key; Supplier Part Number 1: 296-13825-5-ND; Eco-Plan: Green (RoHS & no Sb/Br); SNR(dB): 69; Mounting Technology: Surface Mount; Code_JEDEC: MO-150; ComponentLink1Description: Manufacturer URL; ComponentLink1URL: http://www.ti.com/; ComponentLink2Description: Datasheet; ComponentLink2URL: http://www.ti.com/general/docs/lit/getliterature.tsp?genericPartNumber=ADS807&fileType=pdf; ComponentLink3Description: Package Specification; ComponentLink3URL: http://www.ti.com/lit/ml/msso002e/msso002e.pdf
footprint TI-DB28_N (SOP, 28-Leads, Body 10.2x5.3mm, Pitch 0.65mm, IPC Medium Density)
footprint TI-DB28_L (SOP, 28-Leads, Body 10.2x5.3mm, Pitch 0.65mm, IPC High Density)
footprint TI-DB28_M (SOP, 28-Leads, Body 10.2x5.3mm, Pitch 0.65mm, IPC Low Density)
pins: 1 GND (power) "Ground", 2 BIT 1 (hiz) "Data BIT 1 (MSB)", 3 BIT 2 (hiz) "Data BIT 2", 4 BIT 3 (hiz) "Data BIT 3", 5 BIT 4 (hiz) "Data BIT 4", 6 BIT 5 (hiz) "Data BIT 5", 7 BIT 6 (hiz) "Data BIT 6", 8 BIT 7 (hiz) "Data BIT 7", 9 BIT 8 (hiz) "Data BIT 8", 10 BIT 9 (hiz) "Data BIT 9", 11 BIT 10 (hiz) "Data BIT 10", 12 BIT 11 (hiz) "Data BIT 11", 13 BIT 12 (hiz) "Data BIT 12 (LSB)", 14 CLK (in) "Convert Clock", 15 VS+ (power) "+5V Supply", 16 FSSEL (in) "HI = 3V, LO = 2V", 17 OTR (out) "Out-of-Range Indicator", 18 ~{INT}/EXT (in) "Reference Select: HIGH or Floating = External LOW = Internal 50kohm pull-up.", 19 ~{OE} (in) "Output Enable", 20 GND (power) "Ground", 21 REFB (in) "Bottom Reference/Bypass", 22 REFT (in) "Top Reference/Bypass", 23 CM (out) "Common-Mode Voltage Output", 24 ~{IN} (in) "Complementary Analog Input", 25 IN (in) "Analog Input", 26 GND (power) "Ground", 27 VS+ (power) "+5V Supply", 28 VDRV (power) "Logic Driver Supply Voltage"

## ADS807E/1KG4
designator U?
12-Bit, 53 MSPS ADC Single-Ended / Differential Input with Range of 2 to 3 Vpp, Internal / External Reference, Out of Range Indicator, -40 to 85 degC, 28-pin SOP (DB28), Green (RoHS & no Sb/Br); Manufacturer: Texas Instruments; PartNumber: ADS807E/1KG4; # Input Channels: 1; Analog Voltage AV/DD(Max)(V): 5.25; Analog Voltage AV/DD(Min)(V): 4.75; Architecture: Pipeline; Digital Supply(Max)(V): 5; Digital Supply(Min)(V): 3; ENOB(Bits): 0.5; INL(Max)(+/-LSB): 4; Interface: Parallel CMOS; Resolution(Bits): 12; Sample Rate (max)(SPS): 53M; SFDR(dB): 82; SINAD(dB): 69; SubFamily: High Speed ADC (>10MSPS); DatasheetVersion: SBAS072A; PackageVersion: 4040065/E, 12/2001; PackageReference: DB28; PackageDescription: 28-Pin Plastic Small Outline, Body 10.2 X 5.3 mm, Pitch 0.65 mm; Supplier 1: Digi-Key; Supplier Part Number 1: TLC4541IDGKG4-ND; Eco-Plan: Green (RoHS & no Sb/Br); SNR(dB): 69; Mounting Technology: Surface Mount; Code_JEDEC: MO-150; ComponentLink1Description: Manufacturer URL; ComponentLink1URL: http://www.ti.com/; ComponentLink2Description: Datasheet; ComponentLink2URL: http://www.ti.com/general/docs/lit/getliterature.tsp?genericPartNumber=ADS807&fileType=pdf; ComponentLink3Description: Package Specification; ComponentLink3URL: http://www.ti.com/lit/ml/msso002e/msso002e.pdf
footprint TI-DB28_N (SOP, 28-Leads, Body 10.2x5.3mm, Pitch 0.65mm, IPC Medium Density)
footprint TI-DB28_L (SOP, 28-Leads, Body 10.2x5.3mm, Pitch 0.65mm, IPC High Density)
footprint TI-DB28_M (SOP, 28-Leads, Body 10.2x5.3mm, Pitch 0.65mm, IPC Low Density)
pins: 1 GND (power) "Ground", 2 BIT 1 (hiz) "Data BIT 1 (MSB)", 3 BIT 2 (hiz) "Data BIT 2", 4 BIT 3 (hiz) "Data BIT 3", 5 BIT 4 (hiz) "Data BIT 4", 6 BIT 5 (hiz) "Data BIT 5", 7 BIT 6 (hiz) "Data BIT 6", 8 BIT 7 (hiz) "Data BIT 7", 9 BIT 8 (hiz) "Data BIT 8", 10 BIT 9 (hiz) "Data BIT 9", 11 BIT 10 (hiz) "Data BIT 10", 12 BIT 11 (hiz) "Data BIT 11", 13 BIT 12 (hiz) "Data BIT 12 (LSB)", 14 CLK (in) "Convert Clock", 15 VS+ (power) "+5V Supply", 16 FSSEL (in) "HI = 3V, LO = 2V", 17 OTR (out) "Out-of-Range Indicator", 18 ~{INT}/EXT (in) "Reference Select: HIGH or Floating = External LOW = Internal 50kohm pull-up.", 19 ~{OE} (in) "Output Enable", 20 GND (power) "Ground", 21 REFB (in) "Bottom Reference/Bypass", 22 REFT (in) "Top Reference/Bypass", 23 CM (out) "Common-Mode Voltage Output", 24 ~{IN} (in) "Complementary Analog Input", 25 IN (in) "Analog Input", 26 GND (power) "Ground", 27 VS+ (power) "+5V Supply", 28 VDRV (power) "Logic Driver Supply Voltage"

## ADS807EG4
designator U?
12-Bit, 53 MSPS ADC Single-Ended / Differential Input with Range of 2 to 3 Vpp, Internal / External Reference, Out of Range Indicator, -40 to 85 degC, 28-pin SOP (DB28), Green (RoHS & no Sb/Br); Manufacturer: Texas Instruments; PartNumber: ADS807EG4; # Input Channels: 1; Analog Voltage AV/DD(Max)(V): 5.25; Analog Voltage AV/DD(Min)(V): 4.75; Architecture: Pipeline; Digital Supply(Max)(V): 5; Digital Supply(Min)(V): 3; ENOB(Bits): 0.5; INL(Max)(+/-LSB): 4; Interface: Parallel CMOS; Resolution(Bits): 12; Sample Rate (max)(SPS): 53M; SFDR(dB): 82; SINAD(dB): 69; SubFamily: High Speed ADC (>10MSPS); DatasheetVersion: SBAS072A; PackageVersion: 4040065/E, 12/2001; PackageReference: DB28; PackageDescription: 28-Pin Plastic Small Outline, Body 10.2 X 5.3 mm, Pitch 0.65 mm; Supplier 1: Digi-Key; Supplier Part Number 1: TLC4541IDGKR-ND; Eco-Plan: Green (RoHS & no Sb/Br); SNR(dB): 69; Mounting Technology: Surface Mount; Code_JEDEC: MO-150; ComponentLink1Description: Manufacturer URL; ComponentLink1URL: http://www.ti.com/; ComponentLink2Description: Datasheet; ComponentLink2URL: http://www.ti.com/general/docs/lit/getliterature.tsp?genericPartNumber=ADS807&fileType=pdf; ComponentLink3Description: Package Specification; ComponentLink3URL: http://www.ti.com/lit/ml/msso002e/msso002e.pdf
footprint TI-DB28_N (SOP, 28-Leads, Body 10.2x5.3mm, Pitch 0.65mm, IPC Medium Density)
footprint TI-DB28_L (SOP, 28-Leads, Body 10.2x5.3mm, Pitch 0.65mm, IPC High Density)
footprint TI-DB28_M (SOP, 28-Leads, Body 10.2x5.3mm, Pitch 0.65mm, IPC Low Density)
pins: 1 GND (power) "Ground", 2 BIT 1 (hiz) "Data BIT 1 (MSB)", 3 BIT 2 (hiz) "Data BIT 2", 4 BIT 3 (hiz) "Data BIT 3", 5 BIT 4 (hiz) "Data BIT 4", 6 BIT 5 (hiz) "Data BIT 5", 7 BIT 6 (hiz) "Data BIT 6", 8 BIT 7 (hiz) "Data BIT 7", 9 BIT 8 (hiz) "Data BIT 8", 10 BIT 9 (hiz) "Data BIT 9", 11 BIT 10 (hiz) "Data BIT 10", 12 BIT 11 (hiz) "Data BIT 11", 13 BIT 12 (hiz) "Data BIT 12 (LSB)", 14 CLK (in) "Convert Clock", 15 VS+ (power) "+5V Supply", 16 FSSEL (in) "HI = 3V, LO = 2V", 17 OTR (out) "Out-of-Range Indicator", 18 ~{INT}/EXT (in) "Reference Select: HIGH or Floating = External LOW = Internal 50kohm pull-up.", 19 ~{OE} (in) "Output Enable", 20 GND (power) "Ground", 21 REFB (in) "Bottom Reference/Bypass", 22 REFT (in) "Top Reference/Bypass", 23 CM (out) "Common-Mode Voltage Output", 24 ~{IN} (in) "Complementary Analog Input", 25 IN (in) "Analog Input", 26 GND (power) "Ground", 27 VS+ (power) "+5V Supply", 28 VDRV (power) "Logic Driver Supply Voltage"

## ADS808Y/250
designator U?
12-Bit, 70 MSPS ADC Single-Ended / Differential, Internal / External Reference, Flexible Clocking, Selectable Fullscale Range and Power Down, -40 to 85 degC, 48-pin QFP (PHP48), Green (RoHS & no Sb/Br); Manufacturer: Texas Instruments; PartNumber: ADS808Y/250; # Input Channels: 1; Analog Voltage AV/DD(Max)(V): 5.25; Analog Voltage AV/DD(Min)(V): 4.75; Architecture: Pipeline; Digital Supply(Max)(V): 5; Digital Supply(Min)(V): 3; ENOB(Bits): 0.7; INL(Max)(+/-LSB): 7; Interface: Parallel CMOS; Resolution(Bits): 12; Sample Rate (max)(SPS): 70M; SFDR(dB): 68; SINAD(dB): 63; SNR(dB): 64; SubFamily: High Speed ADC (>10MSPS); DatasheetVersion: SBAS179C; PackageVersion: 4146927/B, 08/2003; PackageReference: PHP48-4790X4790TP; PackageDescription: 48-Pin PowerPAD(TM) Plastic Quad Flatpack, Body 7 x 7 mm, Pitch 0.5 mm; Supplier 1: Digi-Key; Supplier Part Number 1: TLC4541IDGKRG4-ND; Eco-Plan: Green (RoHS & no Sb/Br); Mounting Technology: Surface Mount; Code_JEDEC: MS-026; ComponentLink1Description: Manufacturer URL; ComponentLink1URL: http://www.ti.com/; ComponentLink2Description: Datasheet; ComponentLink2URL: http://www.ti.com/general/docs/lit/getliterature.tsp?genericPartNumber=ADS808&fileType=pdf; ComponentLink3Description: Package Specification; ComponentLink3URL: http://www.ti.com/litv/pdf/mpqf051a
footprint TI-PHP48-4790X4790TP_N (QFP, 48-Leads, Body 7x7mm, Pitch 0.5mm, Thermal Pad 4.9 x 4.9 mm, IPC Medium Density)
footprint TI-PHP48-4790X4790TP_L (QFP, 48-Leads, Body 7x7mm, Pitch 0.5mm, Thermal Pad 4.9 x 4.9 mm, IPC High Density)
footprint TI-PHP48-4790X4790TP_M (QFP, 48-Leads, Body 7x7mm, Pitch 0.5mm, Thermal Pad 4.9 x 4.9 mm, IPC Low Density)
part A pins: 1 BYP "Bypass Point", 6 CLK (in) "Clock Input", 7 ~{CLK} (in) "Complementary Clock Input", 10 OVR (out) "Over-Range Indicator", 11 DV (out) "Data Valid Pulse: HI = Data Valid", 12 NC "No Connection", 13 NC "No Connection", 14 D11 (hiz) "Data Bit 11, (MSB)", 15 D10 (hiz) "Data Bit 10", 16 D9 (hiz) "Data Bit 9", 17 D8 (hiz) "Data Bit 8", 18 D7 (hiz) "Data Bit 7", 19 D6 (hiz) "Data Bit 6", 20 D5 (hiz) "Data Bit 5", 21 D4 (hiz) "Data Bit 4", 22 D3 (hiz) "Data Bit 3", 23 D2 (hiz) "Data Bit 2", 24 D1 (hiz) "Data Bit 1", 25 D0 (hiz) "Data Bit 0, (LSB)", 28 ~{OE} (in) "Output Enable: HI = High Impedance; LO or Floating: Normal Operation", 29 PD (in) "Power Down: HI = Power Down; LO = Normal", 30 BTC (in) "HI = Binary Two’s Complement; LO = Straight Binary", 32 SEL2 (in) "Reference Select 2: See Table on Page 5", 33 SEL1 (in) "Reference Select 1: See Table on Page 5", 34 VREF (in) "Internal Reference Voltage", 39 REFB (in) "Bottom Reference Voltage Bypass", 40 CM (out) "Common-Mode Voltage (midscale)", 41 REFT (in) "Top Reference Voltage Bypass", 44 ~{IN} (in) "Complementary Analog Input", 46 IN (in) "Analog Input"
part B pins: 2 VS+ (power) "Supply Voltage", 3 VS+ (power) "Supply Voltage", 4 VS+ (power) "Supply Voltage", 5 GND (power) "Ground", 8 GND (power) "Ground", 9 GND (power) "Ground", 26 VDRV (power) "Output Bit Driver Voltage Supply", 27 GND (power) "Ground", 31 GND (power) "Ground", 35 GND (power) "Ground", 36 GND (power) "Ground", 37 GND (power) "Ground", 38 GND (power) "Ground", 42 GND (power) "Ground", 43 GND (power) "Ground", 45 GND (power) "Ground", 47 VS+ (power) "Supply Voltage", 48 VS+ (power) "Supply Voltage", 49 EP

## ADS808Y/250G4
designator U?
12-Bit, 70 MSPS ADC Single-Ended / Differential, Internal / External Reference, Flexible Clocking, Selectable Fullscale Range and Power Down, -40 to 85 degC, 48-pin QFP (PHP48), Green (RoHS & no Sb/Br); Manufacturer: Texas Instruments; PartNumber: ADS808Y/250G4; # Input Channels: 1; Analog Voltage AV/DD(Max)(V): 5.25; Analog Voltage AV/DD(Min)(V): 4.75; Architecture: Pipeline; Digital Supply(Max)(V): 5; Digital Supply(Min)(V): 3; ENOB(Bits): 0.7; INL(Max)(+/-LSB): 7; Interface: Parallel CMOS; Resolution(Bits): 12; Sample Rate (max)(SPS): 70M; SFDR(dB): 68; SINAD(dB): 63; SNR(dB): 64; SubFamily: High Speed ADC (>10MSPS); DatasheetVersion: SBAS179C; PackageVersion: 4146927/B, 08/2003; PackageReference: PHP48-4790X4790TP; PackageDescription: 48-Pin PowerPAD(TM) Plastic Quad Flatpack, Body 7 x 7 mm, Pitch 0.5 mm; Supplier 1: Digi-Key; Supplier Part Number 1: 296-13506-5-ND; Eco-Plan: Green (RoHS & no Sb/Br); Mounting Technology: Surface Mount; Code_JEDEC: MS-026; ComponentLink1Description: Manufacturer URL; ComponentLink1URL: http://www.ti.com/; ComponentLink2Description: Datasheet; ComponentLink2URL: http://www.ti.com/general/docs/lit/getliterature.tsp?genericPartNumber=ADS808&fileType=pdf; ComponentLink3Description: Package Specification; ComponentLink3URL: http://www.ti.com/litv/pdf/mpqf051a
footprint TI-PHP48-4790X4790TP_N (QFP, 48-Leads, Body 7x7mm, Pitch 0.5mm, Thermal Pad 4.9 x 4.9 mm, IPC Medium Density)
footprint TI-PHP48-4790X4790TP_L (QFP, 48-Leads, Body 7x7mm, Pitch 0.5mm, Thermal Pad 4.9 x 4.9 mm, IPC High Density)
footprint TI-PHP48-4790X4790TP_M (QFP, 48-Leads, Body 7x7mm, Pitch 0.5mm, Thermal Pad 4.9 x 4.9 mm, IPC Low Density)
part A pins: 1 BYP "Bypass Point", 6 CLK (in) "Clock Input", 7 ~{CLK} (in) "Complementary Clock Input", 10 OVR (out) "Over-Range Indicator", 11 DV (out) "Data Valid Pulse: HI = Data Valid", 12 NC "No Connection", 13 NC "No Connection", 14 D11 (hiz) "Data Bit 11, (MSB)", 15 D10 (hiz) "Data Bit 10", 16 D9 (hiz) "Data Bit 9", 17 D8 (hiz) "Data Bit 8", 18 D7 (hiz) "Data Bit 7", 19 D6 (hiz) "Data Bit 6", 20 D5 (hiz) "Data Bit 5", 21 D4 (hiz) "Data Bit 4", 22 D3 (hiz) "Data Bit 3", 23 D2 (hiz) "Data Bit 2", 24 D1 (hiz) "Data Bit 1", 25 D0 (hiz) "Data Bit 0, (LSB)", 28 ~{OE} (in) "Output Enable: HI = High Impedance; LO or Floating: Normal Operation", 29 PD (in) "Power Down: HI = Power Down; LO = Normal", 30 BTC (in) "HI = Binary Two’s Complement; LO = Straight Binary", 32 SEL2 (in) "Reference Select 2: See Table on Page 5", 33 SEL1 (in) "Reference Select 1: See Table on Page 5", 34 VREF (in) "Internal Reference Voltage", 39 REFB (in) "Bottom Reference Voltage Bypass", 40 CM (out) "Common-Mode Voltage (midscale)", 41 REFT (in) "Top Reference Voltage Bypass", 44 ~{IN} (in) "Complementary Analog Input", 46 IN (in) "Analog Input"
part B pins: 2 VS+ (power) "Supply Voltage", 3 VS+ (power) "Supply Voltage", 4 VS+ (power) "Supply Voltage", 5 GND (power) "Ground", 8 GND (power) "Ground", 9 GND (power) "Ground", 26 VDRV (power) "Output Bit Driver Voltage Supply", 27 GND (power) "Ground", 31 GND (power) "Ground", 35 GND (power) "Ground", 36 GND (power) "Ground", 37 GND (power) "Ground", 38 GND (power) "Ground", 42 GND (power) "Ground", 43 GND (power) "Ground", 45 GND (power) "Ground", 47 VS+ (power) "Supply Voltage", 48 VS+ (power) "Supply Voltage", 49 EP

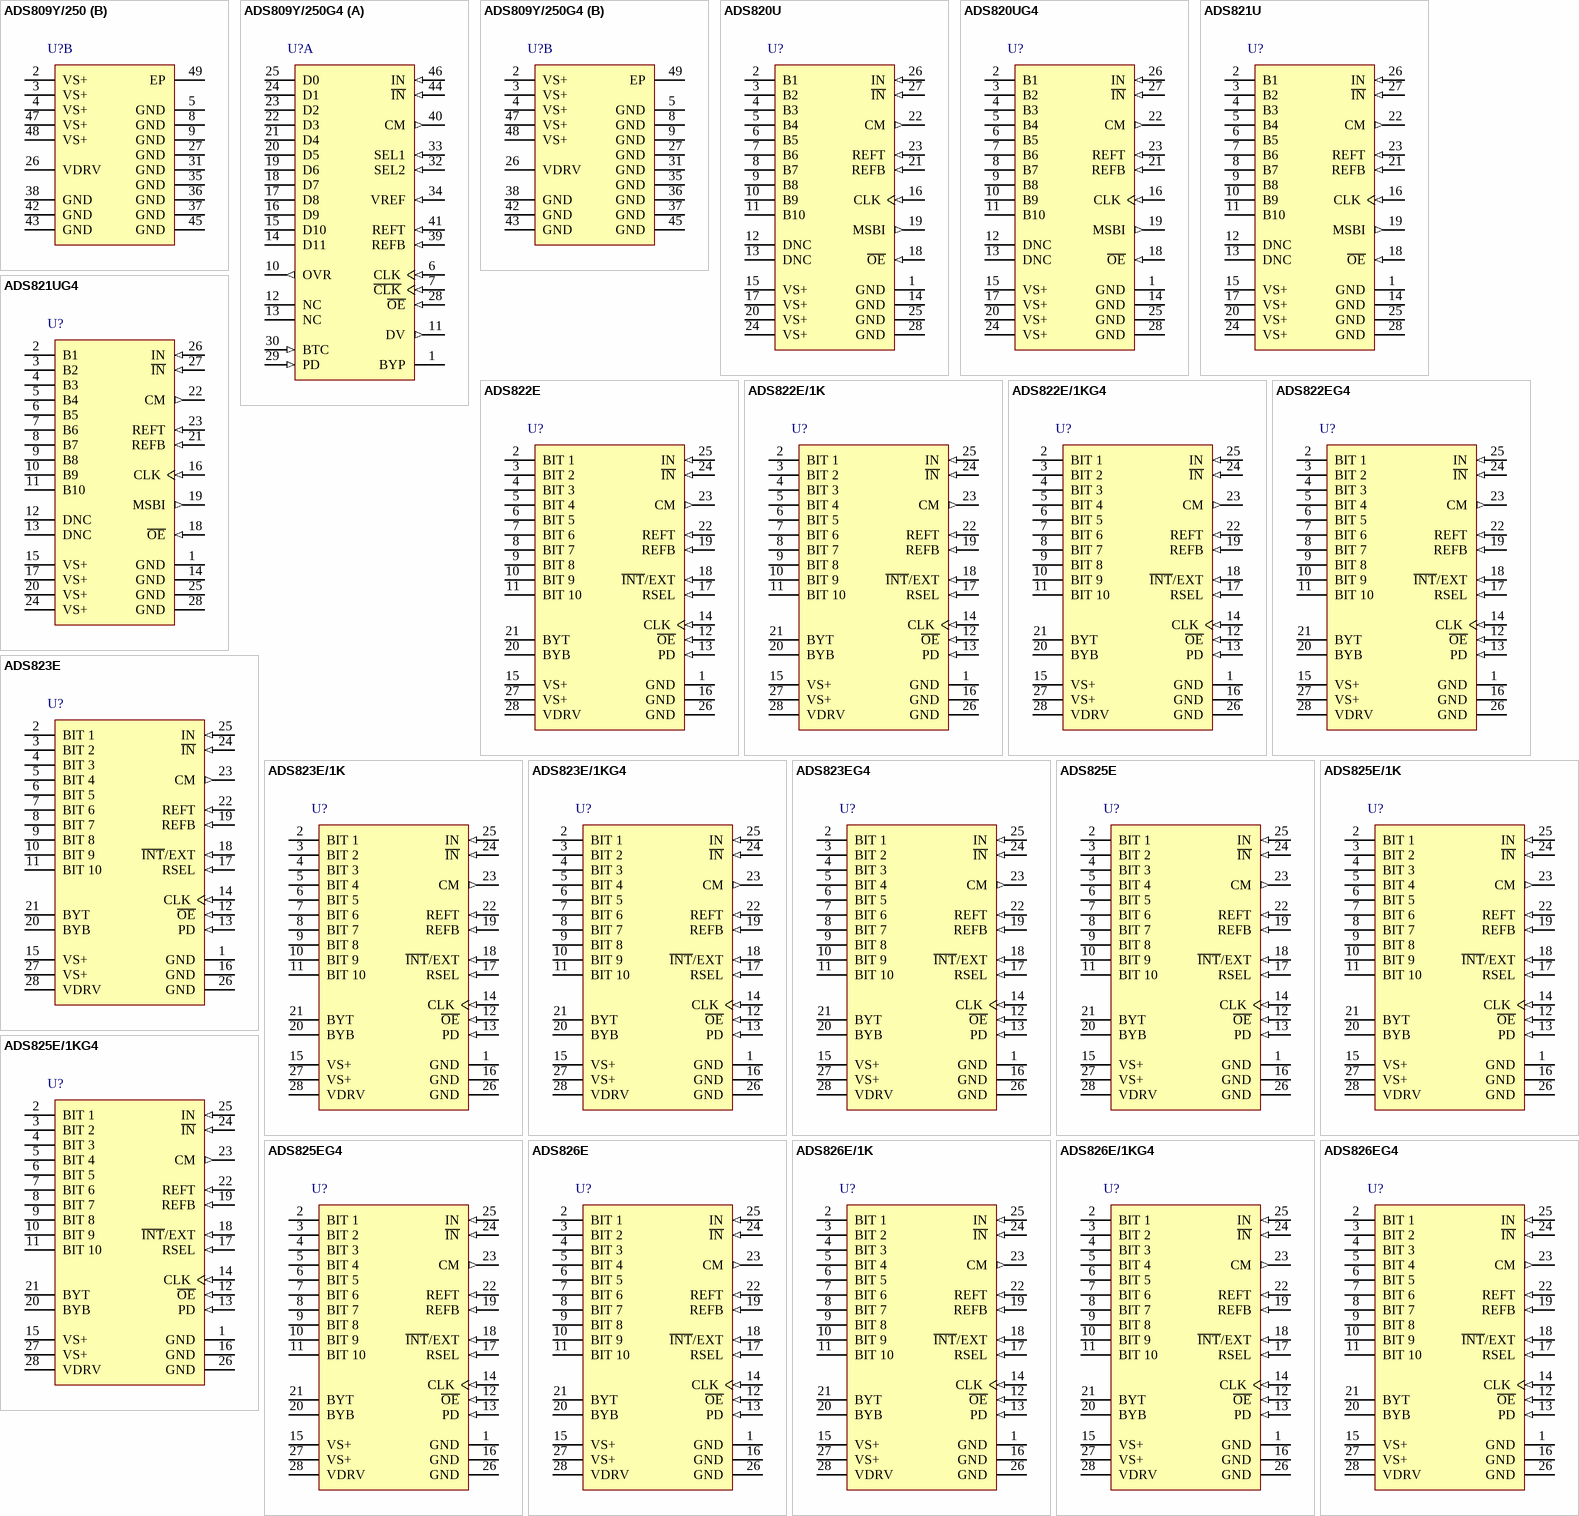
[diagram p9: symbols ADS809Y/250 to ADS826EG4]

## ADS809Y/250
designator U?
12-Bit, 80 MSPS ADC Single-Ended / Differential, Internal / External Reference, Flexible Clocking, Selectable Fullscale Range and Pwrdown, -40 to 85 degC, 48-pin QFP (PHP48), Green (RoHS & no Sb/Br); Manufacturer: Texas Instruments; PartNumber: ADS809Y/250; # Input Channels: 1; Analog Voltage AV/DD(Max)(V): 5.25; Analog Voltage AV/DD(Min)(V): 4.75; Architecture: Pipeline; Digital Supply(Max)(V): 5; Digital Supply(Min)(V): 3; INL(Max)(+/-LSB): 7; Interface: Parallel CMOS; Resolution(Bits): 12; Sample Rate (max)(SPS): 80M; SFDR(dB): 67; SINAD(dB): 61; SNR(dB): 63; SubFamily: High Speed ADC (>10MSPS); DatasheetVersion: SBAS170C; PackageVersion: 4146927/B, 08/2003; PackageReference: PHP48-4790X4790TP; PackageDescription: 48-Pin PowerPAD(TM) Plastic Quad Flatpack, Body 7 x 7 mm, Pitch 0.5 mm; Supplier 1: Digi-Key; Supplier Part Number 1: TLC3545IDGKG4-ND; Eco-Plan: Green (RoHS & no Sb/Br); Mounting Technology: Surface Mount; Code_JEDEC: MS-026; ComponentLink1Description: Manufacturer URL; ComponentLink1URL: http://www.ti.com/; ComponentLink2Description: Datasheet; ComponentLink2URL: http://www.ti.com/general/docs/lit/getliterature.tsp?genericPartNumber=ADS809&fileType=pdf; ComponentLink3Description: Package Specification; ComponentLink3URL: http://www.ti.com/litv/pdf/mpqf051a
footprint TI-PHP48-4790X4790TP_N (QFP, 48-Leads, Body 7x7mm, Pitch 0.5mm, Thermal Pad 4.9 x 4.9 mm, IPC Medium Density)
footprint TI-PHP48-4790X4790TP_L (QFP, 48-Leads, Body 7x7mm, Pitch 0.5mm, Thermal Pad 4.9 x 4.9 mm, IPC High Density)
footprint TI-PHP48-4790X4790TP_M (QFP, 48-Leads, Body 7x7mm, Pitch 0.5mm, Thermal Pad 4.9 x 4.9 mm, IPC Low Density)
part A pins: 1 BYP "Bypass Point", 6 CLK (in) "Clock Input", 7 ~{CLK} (in) "Complementary Clock Input", 10 OVR (out) "Over-Range Indicator", 11 DV (out) "Data Valid Pulse: HI = Data Valid", 12 NC "No Connection", 13 NC "No Connection", 14 D11 (hiz) "Data Bit 11, (MSB)", 15 D10 (hiz) "Data Bit 10", 16 D9 (hiz) "Data Bit 9", 17 D8 (hiz) "Data Bit 8", 18 D7 (hiz) "Data Bit 7", 19 D6 (hiz) "Data Bit 6", 20 D5 (hiz) "Data Bit 5", 21 D4 (hiz) "Data Bit 4", 22 D3 (hiz) "Data Bit 3", 23 D2 (hiz) "Data Bit 2", 24 D1 (hiz) "Data Bit 1", 25 D0 (hiz) "Data Bit 0, (LSB)", 28 ~{OE} (in) "Output Enable: HI = High Impedance; LO or Floating: Normal Operation", 29 PD (in) "Power Down: HI = Power Down; LO = Normal", 30 BTC (in) "HI = Binary Two’s Complement; LO = Straight Binary", 32 SEL2 (in) "Reference Select 2: See Table on Page 5", 33 SEL1 (in) "Reference Select 1: See Table on Page 5", 34 VREF (in) "Internal Reference Voltage", 39 REFB (in) "Bottom Reference Voltage Bypass", 40 CM (out) "Common-Mode Voltage (midscale)", 41 REFT (in) "Top Reference Voltage Bypass", 44 ~{IN} (in) "Complementary Analog Input", 46 IN (in) "Analog Input"
part B pins: 2 VS+ (power) "Supply Voltage", 3 VS+ (power) "Supply Voltage", 4 VS+ (power) "Supply Voltage", 5 GND (power) "Ground", 8 GND (power) "Ground", 9 GND (power) "Ground", 26 VDRV (power) "Output Bit Driver Voltage Supply", 27 GND (power) "Ground", 31 GND (power) "Ground", 35 GND (power) "Ground", 36 GND (power) "Ground", 37 GND (power) "Ground", 38 GND (power) "Ground", 42 GND (power) "Ground", 43 GND (power) "Ground", 45 GND (power) "Ground", 47 VS+ (power) "Supply Voltage", 48 VS+ (power) "Supply Voltage", 49 EP